# Altium footprint library RESC6432X90N.PcbLib: 1 footprints
Each footprint in its own frame and in the unit in brackets; x right, y up, seen from the top. Pads: shape width x height; smd on the part's side, far side on the other; paste and mask are expansions set on the pad; w line width, h text height; cw(c..) or ccw(c..) is an arc to the next point about the centre after c.
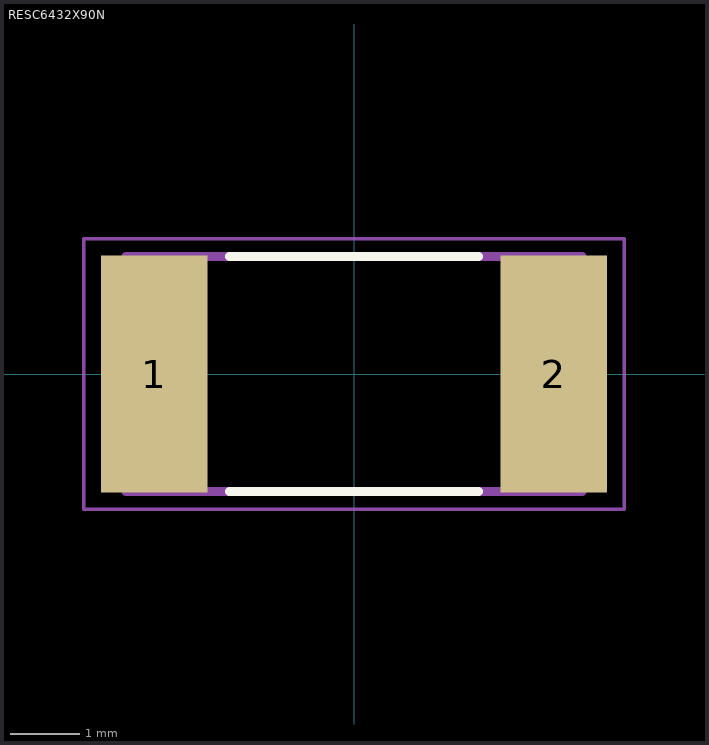
[diagram p0: the footprint, top view; thin cyan lines are the x and y axes]

## RESC6432X90N [mm]
pads (2):
  rect 1.54x3.42 smd: 1(-2.89,0) 2(2.89,0)
Top Overlay:
  lines w0.127: -1.8,-1.7 1.8,-1.7 ; -1.8,1.7 1.8,1.7
Mechanical 13:
  lines w0.127: -3.3,-1.7 3.3,-1.7 3.3,1.7 -3.3,1.7 -3.3,-1.7
Mechanical 15:
  lines w0.05: -3.908,-1.958 3.908,-1.958 3.908,1.958 -3.908,1.958 -3.908,-1.958
3D body "step_temp.STEP": height 0.9, standoff 0, extent -3.2,-1.6 3.2,1.6